# Altium schematic symbol library lr3 (1).SchLib: 5 symbols
Pins are listed as number, name and electrical type; pins without a type are passive.

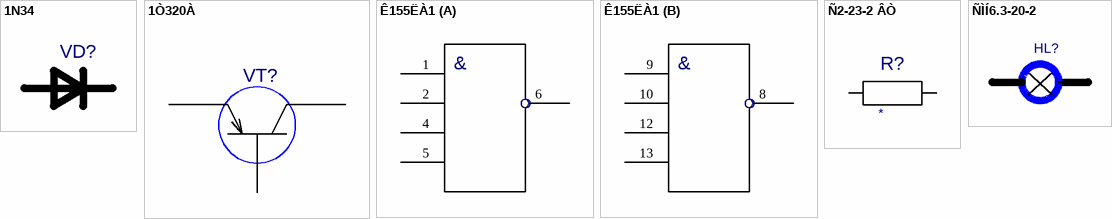
[diagram p0: symbols 1N34 to ÑÌÍ6.3-20-2]

## 1N34
designator VD?  (value not drawn)
Value: *
footprint DO-7
pins: A, K

## 1Ò320À
designator VT?  (value not drawn)
Value: *
footprint ÃÒ320Á
pins: 1 E, 2 K, 3 B

## Ê155ËÀ1
designator DD?  (value not drawn)
Value: *
footprint 201.14-1
pins on every part: 3 hidden, 7 GND (power) hidden, 11 hidden, 14 VCC (power) hidden
part A pins: 1, 2, 4, 5, 6
part B pins: 8 6, 9 1, 10 2, 12 4, 13 5
part A text: &
part B text: &

## Ñ2-23-2 ÂÒ
designator R?  (value not drawn)
Value: *
footprint C2-33H-2W
pins: 1 I/O0, 2 I/O1

## ÑÌÍ6.3-20-2
designator HL?  (value not drawn)
Value: *
footprint HL_MINI
pins: 1, 2